# EAGLE library part PCA9685 (library Controller)
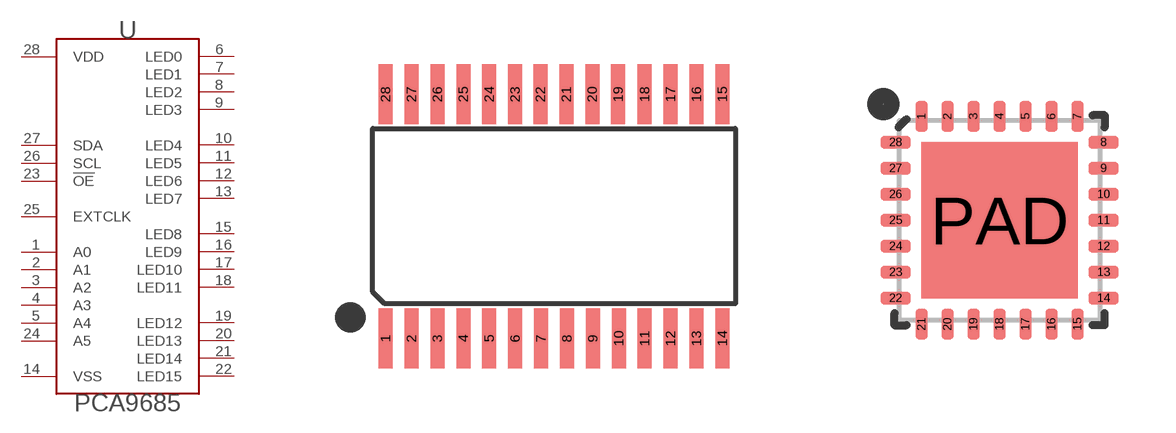
[diagram p30: symbol with the pads of TSSOP28; footprints TSSOP28, VQFN-28]

Designator prefix U

## PCA9685PW  [TSSOP28]
1  A0
2  A1
3  A2
4  A3
5  A4
6  LED0
7  LED1
8  LED2
9  LED3
10  LED4
11  LED5
12  LED6
13  LED7
14  VSS
15  LED8
16  LED9
17  LED10
18  LED11
19  LED12
20  LED13
21  LED14
22  LED15
23  !OE
24  A5
25  EXTCLK
26  SCL
27  SDA
28  VDD

## PCA9685BS  [VQFN-28]
1  A3
2  A4
3  LED0
4  LED1
5  LED2
6  LED3
7  LED4
8  LED5
9  LED6
10  LED7
11  VSS
12  LED8
13  LED9
14  LED10
15  LED11
16  LED12
17  LED13
18  LED14
19  LED15
20  !OE
21  A5
22  EXTCLK
23  SCL
24  SDA
25  VDD
26  A0
27  A1
28  A2
PAD  VSS

## Footprint TSSOP28 (pad centres in mm)
NXP PCA9634PW 8-bit i2C-bus LED Controller
smd 0.35 x 1.5: 1 -2.925,-3.065; 2 -2.275,-3.065; 3 -1.625,-3.065; 4 -0.975,-3.065; 5 -0.325,-3.065; 6 0.325,-3.065; 7 0.975,-3.065; 8 1.625,-3.065; 9 2.275,-3.065; 10 2.925,-3.065; 11 3.575,-3.065; 12 4.225,-3.065; 13 4.875,-3.065; 14 5.525,-3.065; 15 5.525,3.065; 16 4.875,3.065; 17 4.225,3.065; 18 3.575,3.065; 19 2.91,3.065; 20 2.26,3.065; 21 1.61,3.065; 22 0.96,3.065; 23 0.325,3.065; 24 -0.325,3.065; 25 -0.975,3.065; 26 -1.625,3.065; 27 -2.275,3.065; 28 -2.925,3.065

## Footprint VQFN-28 (pad centres in mm)
smd 0.3 x 0.75: 1 -1.95,2.6; 2 -1.3,2.6; 3 -0.65,2.6; 4 0,2.6; 5 0.65,2.6; 6 1.3,2.6; 7 1.95,2.6; 15 1.95,-2.6; 16 1.3,-2.6; 17 0.65,-2.6; 18 0,-2.6; 19 -0.65,-2.6; 20 -1.3,-2.6; 21 -1.95,-2.6
smd 0.75 x 0.3: 8 2.6,1.95; 9 2.6,1.3; 10 2.6,0.65; 11 2.6,0; 12 2.6,-0.65; 13 2.6,-1.3; 14 2.6,-1.95; 22 -2.6,-1.95; 23 -2.6,-1.3; 24 -2.6,-0.65; 25 -2.6,0; 26 -2.6,0.65; 27 -2.6,1.3; 28 -2.6,1.95
smd 3.9 x 3.9: PAD 0,0